# Altium schematic symbol library RPSLib_OpAmp.SchLib: 10 symbols
Pins are listed as number, name and electrical type; pins without a type are passive.

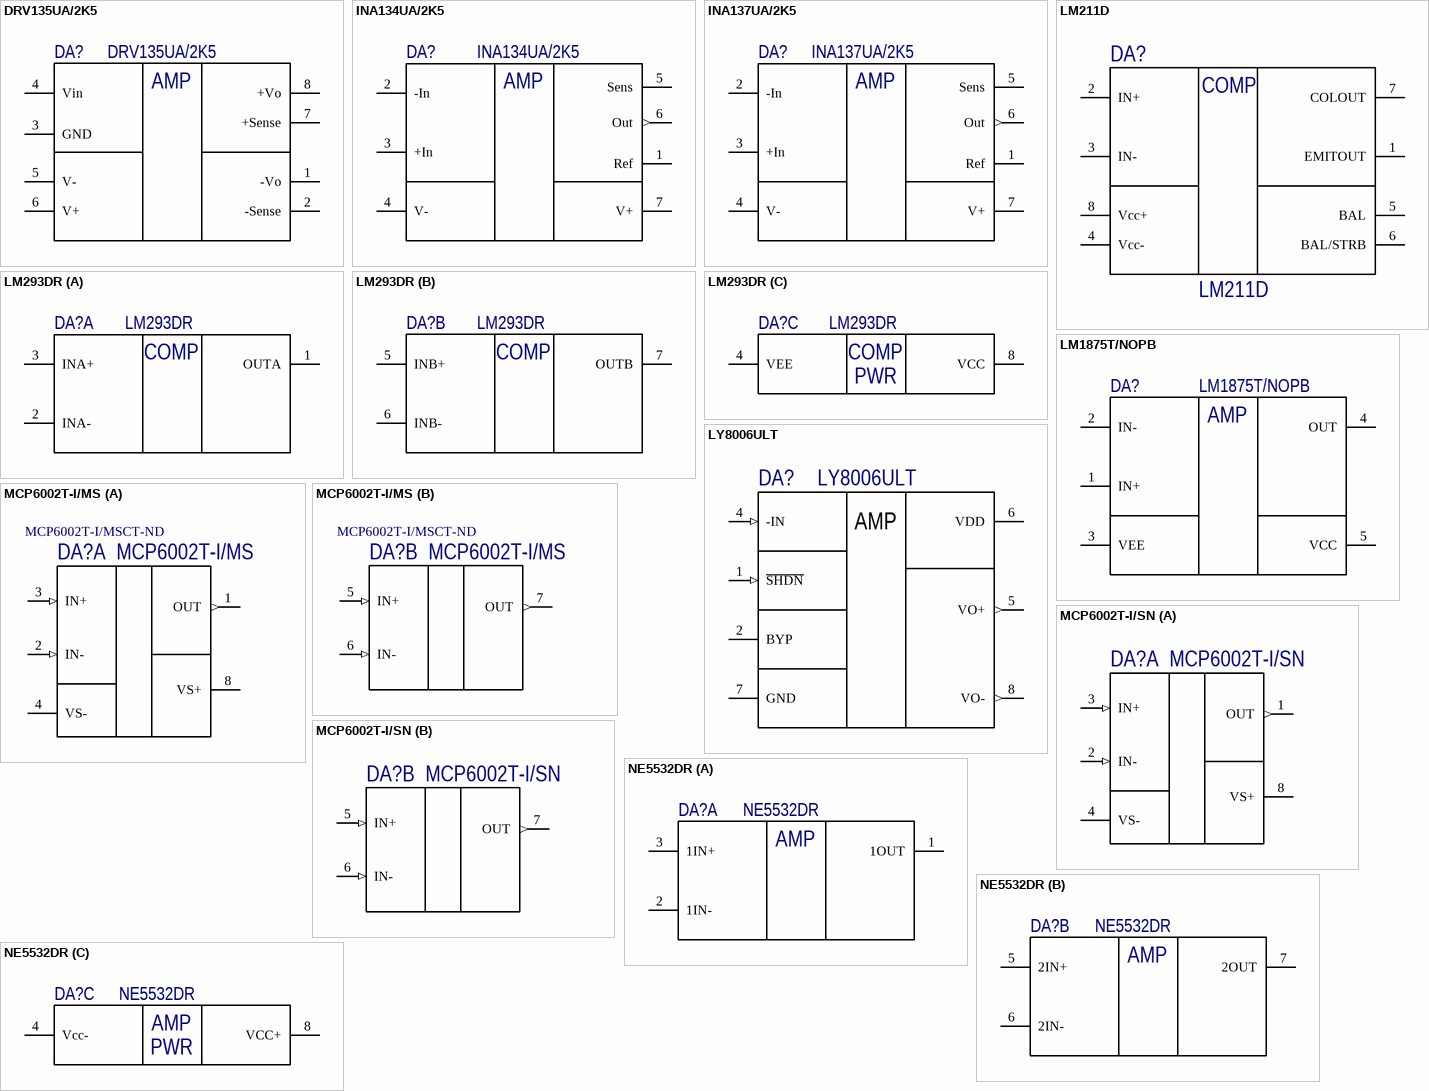
[diagram p0: symbols DRV135UA/2K5 to NE5532DR]

## DRV135UA/2K5
designator DA?
Audio Balanced Line Drivers offered in SOIC-8 8-SOIC -55 to 125; Manufacturer: Texas Instruments; Quiescent Current: 5.2mA; Bandwidth: 1.5MHz; Resistance: 10kR; Supplier 1: Digikey; Manufacturer Part Number: DRV135UA/2K5; RoHS: Yes; Category: Amplifiers - Audio; Stock 1: 3015; Pricing 1: 1=5,3, 10=4,764, 25=4,504, 100=3,9035, 250=3,70336, 500=3,32302, 1000=2,80255 (USD); Length: 4.9mm; Width: 3.91mm; Height: 1.75mm; Thickness: 1.58mm; Lead Free: 5697LeadFree; ComponentLink1URL: https://datasheet.ciiva.com/15128/getdatasheetpartid-186878-15128416.pdf?src-supplier=Verical; ComponentLink1Description: https://datasheet.ciiva.com/15128/getdatasheetpartid-186878-15128416.pdf?src-supplier=Verical; ComponentLink2URL: https://datasheet.ciiva.com/29635/drv134-29635701.pdf?src-supplier=Digikey; ComponentLink2Description: https://datasheet.ciiva.com/29635/drv134-29635701.pdf?src-supplier=Digikey; ComponentLink3URL: https://datasheet.ciiva.com/29635/drv134-29635702.pdf?src-supplier=Digikey; ComponentLink3Description: https://datasheet.ciiva.com/29635/drv134-29635702.pdf?src-supplier=Digikey; ComponentLink4URL: https://datasheet.ciiva.com/29635/drv134-29635703.pdf?src-supplier=Digikey; ComponentLink4Description: https://datasheet.ciiva.com/29635/drv134-29635703.pdf?src-supplier=Digikey; ComponentLink5URL: https://datasheet.ciiva.com/2975/drv135-2975710.pdf?src-supplier=Avnet; ComponentLink5Description: https://datasheet.ciiva.com/2975/drv135-2975710.pdf?src-supplier=Avnet; ComponentLink6URL: https://datasheet.ciiva.com/2975/drv135-2975711.pdf?src-supplier=Avnet; ComponentLink6Description: https://datasheet.ciiva.com/2975/drv135-2975711.pdf?src-supplier=Avnet; ComponentLink7URL: https://datasheet.ciiva.com/1826/drv134-1826207.pdf?src-supplier=Digikey; ComponentLink7Description: https://datasheet.ciiva.com/1826/drv134-1826207.pdf?src-supplier=Digikey; Supplier Part Number 1: 296-37145-1-ND
footprint SOIC127P600X175-8N (SOIC, 8-Leads, Body 4.90x3.90mm, Pitch 1.27mm, IPC Medium Density)
pins: 1 -Vo, 2 -Sense, 3 GND, 4 Vin, 5 V-, 6 V+, 7 +Sense, 8 +Vo
text: AMP

## INA134UA/2K5
designator DA?
Single, Audio Differential Line Receivers, 0dB (G=1) 8-SOIC -40 to 85; Manufacturer: Texas Instruments; Supplier 1: Digikey; Manufacturer Part Number: INA134UA/2K5; RoHS: Yes; Category: Amplifiers - Audio; Stock 1: 6006; Pricing 1: 1=3,04, 10=2,733, 25=2,584, 100=2,2393, 250=2,12448, 500=1,9063, 1000=1,60772 (USD); ComponentLink1URL: https://datasheet.ciiva.com/15128/getdatasheetpartid-312319-15128732.pdf?src-supplier=Verical; ComponentLink1Description: https://datasheet.ciiva.com/15128/getdatasheetpartid-312319-15128732.pdf?src-supplier=Verical; ComponentLink2URL: https://datasheet.ciiva.com/2977/ina134-2977821.pdf?src-supplier=Avnet; ComponentLink2Description: https://datasheet.ciiva.com/2977/ina134-2977821.pdf?src-supplier=Avnet; ComponentLink3URL: https://datasheet.ciiva.com/1826/ina134-1826171.pdf?src-supplier=Digikey; ComponentLink3Description: https://datasheet.ciiva.com/1826/ina134-1826171.pdf?src-supplier=Digikey; Supplier Part Number 1: 296-46093-1-ND
footprint SOIC127P600X175-8N (SOIC, 8-Leads, Body 4.90x3.90mm, Pitch 1.27mm, IPC Medium Density)
pins: 1 Ref, 2 -In, 3 +In, 4 V- (power), 5 Sens, 6 Out (out), 7 V+ (power)
text: AMP

## INA137UA/2K5
designator DA?
Single, Audio Differential Line Receivers, +-6dB (G=1/2 or 2) 8-SOIC -40 to 85; Manufacturer: Texas Instruments; Resistance: 24kR; Supplier 1: Digikey; Manufacturer Part Number: INA137UA/2K5; RoHS: Yes; Category: Amplifiers - Audio; Stock 1: 6102; Pricing 1: 1=2,72, 10=2,445, 25=2,3112, 100=2,003, 250=1,90028, 500=1,7051, 1000=1,43804 (USD); Length: 4.9mm; Width: 3.91mm; Height: 1.75mm; Thickness: 1.58mm; ComponentLink1URL: https://datasheet.ciiva.com/2975/ina137-2975776.pdf?src-supplier=Avnet; ComponentLink1Description: https://datasheet.ciiva.com/2975/ina137-2975776.pdf?src-supplier=Avnet; ComponentLink2URL: https://datasheet.ciiva.com/15128/getdatasheetpartid-316859-15128740.pdf?src-supplier=Verical; ComponentLink2Description: https://datasheet.ciiva.com/15128/getdatasheetpartid-316859-15128740.pdf?src-supplier=Verical; ComponentLink3URL: https://datasheet.ciiva.com/1826/ina137-1826176.pdf?src-supplier=Digikey; ComponentLink3Description: https://datasheet.ciiva.com/1826/ina137-1826176.pdf?src-supplier=Digikey; ComponentLink4URL: https://datasheet.ciiva.com/1826/ina137-1826174.pdf?src-supplier=Digikey; ComponentLink4Description: https://datasheet.ciiva.com/1826/ina137-1826174.pdf?src-supplier=Digikey; ComponentLink5URL: https://datasheet.ciiva.com/1826/ina137-1826175.pdf?src-supplier=Digikey; ComponentLink5Description: https://datasheet.ciiva.com/1826/ina137-1826175.pdf?src-supplier=Digikey; Supplier Part Number 1: 296-26060-1-ND
footprint SOIC127P600X175-8N (SOIC, 8-Leads, Body 4.90x3.90mm, Pitch 1.27mm, IPC Medium Density)
pins: 1 Ref, 2 -In, 3 +In, 4 V- (power), 5 Sens, 6 Out (out), 7 V+ (power)
text: AMP

## LM211D
designator DA?
Amplifier, Comparator; Differential Comparator With Strobes; 36 V; 30 V; Manufacturer: Texas Instruments; Min Supply Voltage: 3.5V; Max Supply Voltage: 30V; Nominal Supply Current: 6mA; Voltage Gain: 106.02dB; Number of Channels: 1; Min Dual Supply Voltage: 1.75V; Max Dual Supply Voltage: 15V; Input Bias Current: 100nA; Output Current per Channel: 50mA; Input Offset Voltage (Vos): 3mV; Response Time: 165ns; Output Type: TTL; Dual Supply Voltage: 9V; Operating Supply Voltage: 28V; Supplier 1: Digi-Key; Manufacturer Part Number: LM211D; RoHS: No; Category: Amplifiers - Op Amps, Buffer, Instrumentation; Stock 1: 2671; Pricing 1: 1=0,78000, 10=0,68900, 25=0,64720, 100=0,49070, 250=0,41764, 500=0,39676, 1000=0,30279, 2500=0,28191, 5000=0,27147 (USD); Mount: Surface Mount; Case/Package: SOIC; Number of Pins: 8; Weight: 0.002561oz; Contact Plating: Gold; Min Operating Temperature: -40°C; Max Operating Temperature: 125°C; Packaging: Rail/Tube; Package Quantity: 75; Max Supply Current: 6mA; Number of Elements: 1; Output Current: 50mA; Type: General Purpose; Quiescent Current: 6mA; Length: 4.9mm; Width: 3.91mm; Height: 1.58mm; Radiation Hardening: No; Lead Free: Lead Free; RoHS Compliant: No; REACH SVHC: No SVHC; ComponentLink1URL: https://datasheet.ciiva.com/15130/getdatasheetpartid-71935-15130729.pdf?src-supplier=Verical; ComponentLink1Description: https://datasheet.ciiva.com/15130/getdatasheetpartid-71935-15130729.pdf?src-supplier=Verical; ComponentLink2URL: https://datasheet.ciiva.com/2970/lm211-2970385.pdf?src-supplier=Avnet; ComponentLink2Description: https://datasheet.ciiva.com/2970/lm211-2970385.pdf?src-supplier=Avnet; ComponentLink3URL: https://datasheet.ciiva.com/26260/lm211-26260188.pdf?src-supplier=Avnet+Europe; ComponentLink3Description: https://datasheet.ciiva.com/26260/lm211-26260188.pdf?src-supplier=Avnet+Europe; ComponentLink4URL: https://datasheet.ciiva.com/1827/lm211-1827407.pdf?src-supplier=Digi-Key; ComponentLink4Description: https://datasheet.ciiva.com/1827/lm211-1827407.pdf?src-supplier=Digi-Key; ComponentLink5URL: https://datasheet.ciiva.com/48707/001010693-da-01-en-ic-diff-comp-lm211d-soic-8-tid-48707242.pdf?src-supplier=Conrad; ComponentLink5Description: https://datasheet.ciiva.com/48707/001010693-da-01-en-ic-diff-comp-lm211d-soic-8-tid-48707242.pdf?src-supplier=Conrad; Supplier Part Number 1: 296-6616-5-ND
footprint SOIC127P600X175-8N (SOIC, 8-Leads, Body 4.90x3.90mm, Pitch 1.27mm, IPC Medium Density)
pins: 1 EMITOUT, 2 IN+, 3 IN-, 4 Vcc-, 5 BAL, 6 BAL/STRB, 7 COLOUT, 8 Vcc+
text: COMP

## LM293DR
designator DA?
Comparator Differential CMOS, MOS, Open-Collector, TTL 8-SOIC; Manufacturer: UMW(Youtai Semiconductor Co., Ltd.); Supplier 1: LCSC; Manufacturer Part Number: LM293DR; RoHS: Yes; Category: Amplifiers - Op Amps, Buffer, Instrumentation; Stock 1: 3319756; Pricing 1: 1=0,201, 100=0,137, 250=0,105, 1000=0,07 (USD); ComponentLink1URL: https://datasheet.ciiva.com/27747/1344278-27747661.pdf?src-supplier=Jameco; ComponentLink1Description: https://datasheet.ciiva.com/27747/1344278-27747661.pdf?src-supplier=Jameco; ComponentLink2URL: https://datasheet.ciiva.com/15131/getdatasheetpartid-250507-15131119.pdf?src-supplier=Verical; ComponentLink2Description: https://datasheet.ciiva.com/15131/getdatasheetpartid-250507-15131119.pdf?src-supplier=Verical; ComponentLink3URL: https://datasheet.ciiva.com/1827/lm193-1827157.pdf?src-supplier=Digi-Key; ComponentLink3Description: https://datasheet.ciiva.com/1827/lm193-1827157.pdf?src-supplier=Digi-Key; ComponentLink4URL: https://datasheet.ciiva.com/1827/lm193-1827158.pdf?src-supplier=Digi-Key; ComponentLink4Description: https://datasheet.ciiva.com/1827/lm193-1827158.pdf?src-supplier=Digi-Key; ComponentLink5URL: https://datasheet.ciiva.com/1827/lm193-1827159.pdf?src-supplier=Digi-Key; ComponentLink5Description: https://datasheet.ciiva.com/1827/lm193-1827159.pdf?src-supplier=Digi-Key; ComponentLink6URL: https://datasheet.ciiva.com/2970/lm2903-2970449.pdf?src-supplier=Avnet; ComponentLink6Description: https://datasheet.ciiva.com/2970/lm2903-2970449.pdf?src-supplier=Avnet; ComponentLink7URL: https://datasheet.ciiva.com/2970/lm2903-2970829.pdf?src-supplier=Avnet; ComponentLink7Description: https://datasheet.ciiva.com/2970/lm2903-2970829.pdf?src-supplier=Avnet; ComponentLink8URL: https://datasheet.ciiva.com/46396/1874624-46396741.pdf?src-supplier=Element14; ComponentLink8Description: https://datasheet.ciiva.com/46396/1874624-46396741.pdf?src-supplier=Element14; ComponentLink9URL: https://datasheet.ciiva.com/1484/1847527-1484292.pdf?src-supplier=Element14; ComponentLink9Description: https://datasheet.ciiva.com/1484/1847527-1484292.pdf?src-supplier=Element14; Supplier Part Number 1: C668213
footprint SOIC127P600X175-8N (SOIC, 8-Leads, Body 4.90x3.90mm, Pitch 1.27mm, IPC Medium Density)
part A pins: 1 OUTA, 2 INA-, 3 INA+
part B pins: 5 INB+, 6 INB-, 7 OUTB
part C pins: 4 VEE, 8 VCC
part A text: COMP
part B text: COMP
part C text: COMP; PWR

## LM1875T/NOPB
designator DA?
Amplifier IC 1-Channel (Mono) Class AB TO-220-5; Manufacturer: TI National Semiconductor; Supplier 1: Digikey; Manufacturer Part Number: LM1875T/NOPB; RoHS: Yes; Category: Amplifiers - Audio; Stock 1: 647; Pricing 1: 1=1,79, 10=1,606, 45=1,51511, 135=1,29081, 270=1,212, 540=1,0605, 1035=0,8787, 2520=0,8181, 5040=0,7878 (USD); Thickness: 4.572mm; ComponentLink1URL: https://datasheet.ciiva.com/1573/1703151-1573932.pdf?src-supplier=Newark; ComponentLink1Description: https://datasheet.ciiva.com/1573/1703151-1573932.pdf?src-supplier=Newark; ComponentLink2URL: https://datasheet.ciiva.com/14187/iylm1875-e-14187208.pdf?src-supplier=Distrelec; ComponentLink2Description: https://datasheet.ciiva.com/14187/iylm1875-e-14187208.pdf?src-supplier=Distrelec; ComponentLink3URL: https://datasheet.ciiva.com/1789/lm1875-1789729.pdf?src-supplier=Digikey; ComponentLink3Description: https://datasheet.ciiva.com/1789/lm1875-1789729.pdf?src-supplier=Digikey; Supplier Part Number 1: LM1875T/NOPB-ND
footprint TO220-5N (TO220, 5-Leads, Pitch 1.8mm, IPC Medium Density)
pins: 1 IN+, 2 IN-, 3 VEE, 4 OUT, 5 VCC
text: AMP

## LY8006ULT
designator DA?
Audio Amp Single Speaker 1 Channel Mono 3.3 Watt Class-D 8-Pin MSOP Ep Tube; Manufacturer: Lyontek Inc.; Quiescent Current: 4.5mA; Max Supply Voltage: 5.5V; Min Supply Voltage: 2.5V; Number of Channels: 1; Output Power: 3.3W; Power Supply Rejection Ratio (PSRR): -55dB; Nominal Supply Current: 2.8mA; Load Impedance: 8R; Supplier 1: LCSC; Manufacturer Part Number: LY8006ULT; RoHS: Yes; Category: Amplifiers - Audio; Case/Package: MSOP; Number of Pins: 8; Packaging: Rail/Tube; Max Output Power: 3.3W; Supply Type: Single; Series: -; Supply Current: 2.8mA; Length: 3mm; Width: 4.9mm; Height: 1.1mm; Radiation Hardening: No; Lead Free: Lead Free; RoHS Compliant: Yes; REACH SVHC: No SVHC; Supplier Part Number 1: C261883
footprint TSOP65P490X110-8N (TSOP, 8-Leads, Body 3,00x3,00mm, Pitch 0,65mm, IPC Medium Density)
pins: 1 ~{SHDN} (in), 2 BYP, 4 -IN (in), 5 VO+ (out), 6 VDD (power), 7 GND (power), 8 VO- (out)
text: AMP

## MCP6002T-I/MS
designator DA?  Supplier Part Number 1: MCP6002T-I/MSCT-ND
IC OPAMP GP 1MHZ RRO 8MSOP; Manufacturer: Microchip; Supplier 1: Digi-Key; Manufacturer Part Number: MCP6002T-I/MS; RoHS: Yes; Category: Amplifiers - Op Amps, Buffer, Instrumentation; Stock 1: 36766; Pricing 1: 1=0,33000, 25=0,28000, 100=0,25000 (USD); ComponentLink1URL: https://datasheet.ciiva.com/26922/getdatasheetpartid-774468-26922652.pdf?src-supplier=Verical; ComponentLink1Description: https://datasheet.ciiva.com/26922/getdatasheetpartid-774468-26922652.pdf?src-supplier=Verical; ComponentLink2URL: https://datasheet.ciiva.com/26344/651491-da-01-en-ic-opamp-mcp6002t-i-ms-msop-8-mcp-26344501.pdf?src-supplier=Conrad; ComponentLink2Description: https://datasheet.ciiva.com/26344/651491-da-01-en-ic-opamp-mcp6002t-i-ms-msop-8-mcp-26344501.pdf?src-supplier=Conrad; ComponentLink3URL: https://datasheet.ciiva.com/4756/21733e-41017-4756694.pdf?src-supplier=Mouser; ComponentLink3Description: https://datasheet.ciiva.com/4756/21733e-41017-4756694.pdf?src-supplier=Mouser; ComponentLink4URL: https://datasheet.ciiva.com/8079/524878-8079095.pdf?src-supplier=Element14; ComponentLink4Description: https://datasheet.ciiva.com/8079/524878-8079095.pdf?src-supplier=Element14; ComponentLink5URL: https://datasheet.ciiva.com/2973/jp011705-2973688.pdf?src-supplier=Avnet; ComponentLink5Description: https://datasheet.ciiva.com/2973/jp011705-2973688.pdf?src-supplier=Avnet; ComponentLink6URL: https://datasheet.ciiva.com/1793/21733j-1793145.pdf?src-supplier=Digi-Key; ComponentLink6Description: https://datasheet.ciiva.com/1793/21733j-1793145.pdf?src-supplier=Digi-Key; ComponentLink7URL: https://datasheet.ciiva.com/1793/21733j-1793146.pdf?src-supplier=Digi-Key; ComponentLink7Description: https://datasheet.ciiva.com/1793/21733j-1793146.pdf?src-supplier=Digi-Key; ComponentLink8URL: https://datasheet.ciiva.com/1793/21733j-1793147.pdf?src-supplier=Digi-Key; ComponentLink8Description: https://datasheet.ciiva.com/1793/21733j-1793147.pdf?src-supplier=Digi-Key
footprint TSOP65P490X110-8N (TSOP, 8-Leads, Body 3,00x3,00mm, Pitch 0,65mm, IPC Medium Density)
part A pins: 1 OUT (out), 2 IN- (in), 3 IN+ (in), 4 VS- (power), 8 VS+
part B pins: 5 IN+ (in), 6 IN- (in), 7 OUT (out)

## MCP6002T-I/SN
designator DA?
IC OPAMP GP 1MHZ RRO 8SOIC; Manufacturer: Microchip; Supplier 1: Digi-Key; Manufacturer Part Number: MCP6002T-I/SN; RoHS: Yes; Category: Amplifiers - Op Amps, Buffer, Instrumentation; Stock 1: 126093; Pricing 1: 1=0,33000, 25=0,28000, 100=0,25000 (USD); ComponentLink1URL: https://datasheet.ciiva.com/26922/getdatasheetpartid-774796-26922654.pdf?src-supplier=Verical; ComponentLink1Description: https://datasheet.ciiva.com/26922/getdatasheetpartid-774796-26922654.pdf?src-supplier=Verical; ComponentLink2URL: https://datasheet.ciiva.com/1804/21733j-1804800.pdf?src-supplier=Digi-Key; ComponentLink2Description: https://datasheet.ciiva.com/1804/21733j-1804800.pdf?src-supplier=Digi-Key; ComponentLink3URL: https://datasheet.ciiva.com/16755/jp011705-16755862.pdf?src-supplier=Avnet+Europe; ComponentLink3Description: https://datasheet.ciiva.com/16755/jp011705-16755862.pdf?src-supplier=Avnet+Europe; ComponentLink4URL: https://datasheet.ciiva.com/11711/jp011705-11711005.pdf?src-supplier=Avnet; ComponentLink4Description: https://datasheet.ciiva.com/11711/jp011705-11711005.pdf?src-supplier=Avnet; ComponentLink5URL: https://datasheet.ciiva.com/29639/filehandler-aspxddocname-en011705-29639006.pdf?src-supplier=Digi-Key; ComponentLink5Description: https://datasheet.ciiva.com/29639/filehandler-aspxddocname-en011705-29639006.pdf?src-supplier=Digi-Key; ComponentLink6URL: https://datasheet.ciiva.com/29639/filehandler-aspxddocname-en011705-29639007.pdf?src-supplier=Digi-Key; ComponentLink6Description: https://datasheet.ciiva.com/29639/filehandler-aspxddocname-en011705-29639007.pdf?src-supplier=Digi-Key; Supplier Part Number 1: MCP6002T-I/SNCT-ND
footprint SOIC127P600X175-8N (SOIC, 8-Leads, Body 4.90x3.90mm, Pitch 1.27mm, IPC Medium Density)
part A pins: 1 OUT (out), 2 IN- (in), 3 IN+ (in), 4 VS- (power), 8 VS+
part B pins: 5 IN+ (in), 6 IN- (in), 7 OUT (out)

## NE5532DR
designator DA?
Dual, 30-V, 10-MHz, low-noise operational amplifier for audio applications 8-SOIC 0 to 70; Manufacturer: Texas Instruments; Supplier 1: Digikey; Manufacturer Part Number: NE5532DR; RoHS: Yes; Category: Amplifiers - Op Amps, Buffer, Instrumentation; Stock 1: 77779; Pricing 1: 1=0,54, 10=0,466, 25=0,4348, 100=0,3478, 250=0,323, 500=0,2733, 1000=0,21119 (USD); Thickness: 1.58mm; Lead Free: 5697LeadFree; ComponentLink1URL: https://datasheet.ciiva.com/1796/ne5532-1796190.pdf?src-supplier=Digikey; ComponentLink1Description: https://datasheet.ciiva.com/1796/ne5532-1796190.pdf?src-supplier=Digikey; ComponentLink2URL: https://datasheet.ciiva.com/1796/ne5532-1796191.pdf?src-supplier=Digikey; ComponentLink2Description: https://datasheet.ciiva.com/1796/ne5532-1796191.pdf?src-supplier=Digikey; ComponentLink3URL: https://datasheet.ciiva.com/1796/ne5532-1796189.pdf?src-supplier=Digikey; ComponentLink3Description: https://datasheet.ciiva.com/1796/ne5532-1796189.pdf?src-supplier=Digikey; Supplier Part Number 1: 296-13622-1-ND
footprint SOIC127P600X175-8N (SOIC, 8-Leads, Body 4.90x3.90mm, Pitch 1.27mm, IPC Medium Density)
part A pins: 1 1OUT, 2 1IN-, 3 1IN+
part B pins: 5 2IN+, 6 2IN-, 7 2OUT
part C pins: 4 Vcc-, 8 VCC+
part A text: AMP
part B text: AMP
part C text: AMP; PWR